# Altium schematic symbol library LR7843.SCHLIB: 1 symbol
Pins are listed as number, name and electrical type; pins without a type are passive.

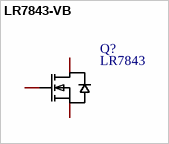
[diagram p0: symbol LR7843-VB]

## LR7843-VB
designator Q?  Name: LR7843  (hidden comment: LR7843-VB)
类型:N沟道;漏源电压(Vdss):30V;连续漏极电流(Id):120A;导通电阻(RDS(on)@Vgs,Id):2.3mΩ@10V,120A;; Manufacturer: VBsemi(微碧); Add into BOM: yes; Type: N沟道; Drain Source Voltage (Vdss): 30V; Symbol: LR7843; Device: LR7843-VB; LCSC Part Name: N沟道 30V 120A; Supplier Part: C5137375; Manufacturer Part: LR7843-VB; Supplier Footprint: TO-252; JLCPCB Part Class: 扩展库; Datasheet: https://atta.szlcsc.com/upload/public/pdf/source/20220817/5F193B2A50E1B5079520877958D5ECE3.pdf; Supplier: LCSC; Convert to PCB: yes; Continuous Drain Current (Id): 120A; Drain Source On Resistance (RDS(on)@Vgs,Id): 2.3mΩ@10V,120A
footprint TO-252-2_L6.6-W6.1-P4.58-LS9.9-BR
3D model TO-252-2L-3P_L6.6-W6.1-H2.3-LS10.1-P4.6
pins: 1 G, 2 D, 3 S